# EAGLE library part 128X32-LCD (library BaseApp)
Digikey No:- __NHD-C12832A1Z-FSW-FBW-3V3__
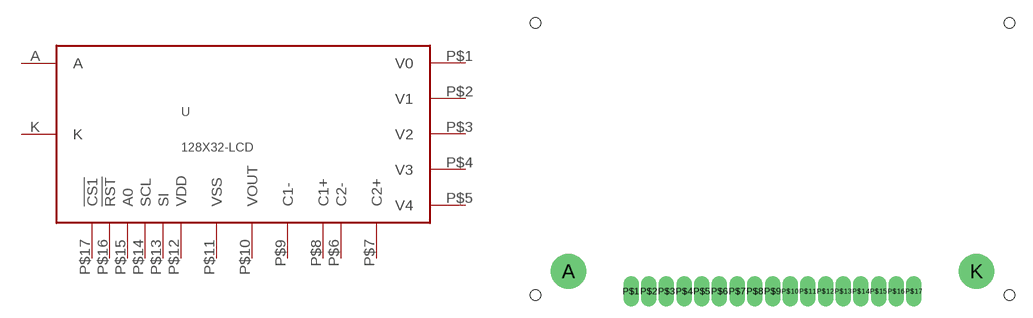
[diagram p59: symbol with the pads of 128X32-LCD; footprint 128X32-LCD]

Designator prefix -

## 128X32-LCD  [128X32-LCD]
A  A
K  K
P$1  V0
P$2  V1
P$3  V2
P$4  V3
P$5  V4
P$6  C2-
P$7  C2+
P$8  C1+
P$9  C1-
P$10  VOUT
P$11  VSS
P$12  VDD
P$13  SI
P$14  SCL
P$15  A0
P$16  !RST
P$17  !CS1

## Footprint 128X32-LCD (pad centres in mm)
drill 2 pad 2.54: A -17.3,-10.5; K 17.3,-10.5
drill 0.8 pad 0.813 long: P$1 -12,-12.19; P$2 -10.5,-12.19; P$3 -9,-12.19; P$4 -7.5,-12.19; P$5 -6,-12.19; P$6 -4.5,-12.19; P$7 -3,-12.19; P$8 -1.5,-12.19; P$9 0,-12.19; P$10 1.5,-12.19; P$11 3,-12.19; P$12 4.5,-12.19; P$13 6,-12.19; P$14 7.5,-12.19; P$15 9,-12.19; P$16 10.5,-12.19; P$17 12,-12.19
hole 0.9 at -20.1,-12.5
hole 0.9 at 20.1,-12.5
hole 0.9 at 20.1,10.6
hole 0.9 at -20.1,10.6